# Altium schematic symbol library USB2JTAG.SchLib: 14 symbols
Pins are listed as number, name and electrical type; pins without a type are passive.

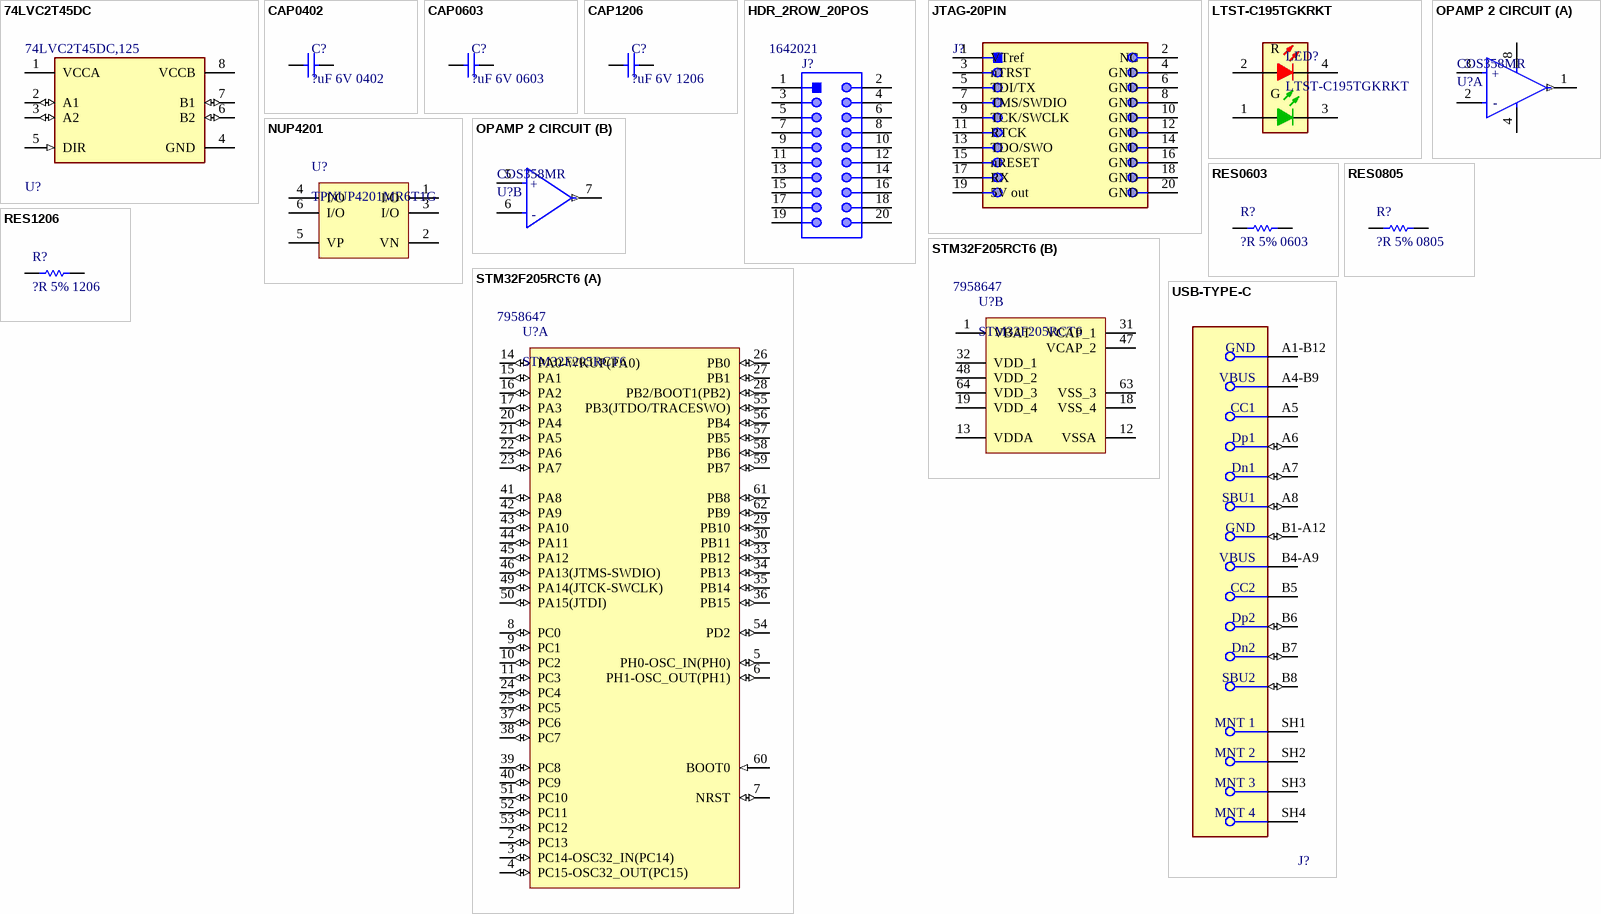
[diagram p0: symbols 74LVC2T45DC to USB-TYPE-C]

## 74LVC2T45DC
designator U?, comment 74LVC2T45DC,125
1.2V~5.5V Tri-State，Unidirectional Voltage Level Translators -40℃~+125℃ 1.2V~5.5V Bi-Directional Voltage Levels 1 2 420Mbps VSSOP-8 Translators / Level Shifters ROHS; Manufacturer: Nexperia; ComponentLink1Description: Datasheet; ComponentLink1URL: https://datasheet.lcsc.com/lcsc/2201131100_Nexperia-74LVC2T45DC-125_C730237.pdf; Manufacturer Part Number: 74LVC2T45DC,125; Case/Package: VSSOP-8; Supplier 1: LCSC; Supplier Part Number 1: C730237
footprint FP-DCU0008A-MFG
pins: 1 VCCA (power), 2 A1 (io), 3 A2 (io), 4 GND (power), 5 DIR (in), 6 B2 (io), 7 B1 (io), 8 VCCB (power)

## CAP0402
designator C?, comment ?uF 6V 0402
footprint FP-GRM155-0_05-IPC_A
footprint FP-GRM155-0_05-IPC_B
footprint FP-GRM155-0_05-IPC_C
footprint FP-GRM155-0_05-MFG
footprint FP-GRM155-0_05-IPC_B-NOSILK
pins: 1, 2

## CAP0603
designator C?, comment ?uF 6V 0603
footprint FP-GRM188-0_1-e0_2_0_55-IPC_A
footprint FP-GRM188-0_1-e0_2_0_55-IPC_B
footprint FP-GRM188-0_1-e0_2_0_55-IPC_B-NOSILK
footprint FP-GRM188-0_1-e0_2_0_55-IPC_C
footprint FP-GRM188-0_1-e0_2_0_55-MFG
footprint FP-GRM188-0_1-e0_2_0_55-IPC_C-NOSILK
pins: 1, 2

## CAP1206
designator C?, comment ?uF 6V 1206
footprint FP-C3216-160-0_2-IPC_A
footprint FP-C3216-160-0_2-IPC_B
footprint FP-C3216-160-0_2-IPC_B-NOSILK
footprint FP-C3216-160-0_2-IPC_C
footprint FP-C3216-160-0_2-IPC_C-NOSILK
footprint FP-C3216-160-0_2-MFG
pins: 1, 2

## HDR_2ROW_20POS
designator J?  Supplier Part Number 1: 1642021
Male Box Header WR-BHD, THT, Vertical, pitch 2.54 mm, 20 pins; Manufacturer: Wurth Elektronik; Part Number: 61202021621; Contact Resistance: 20mOhm; Withstanding Voltage: 500VAC; Pitch: 2.54mm; Pin Number: 20; Working Voltage: 250VAC; Current Rating: 3A; Voltage Rating: 250V; Insulation Resistance: 1GR; Connector Type: Male Pin; Insulation: Insulated; Row Spacing: 0.1inch; Orientation: Vertical; Package Reference: 61202021621; Publisher: WurthElektronik; Datasheet URL: https://katalog.we-online.de/em/datasheet/6120xx21621.pdf; Operating Temperature: -40to125degC; Packaging: Tray; Mounting Technology: THT; Gender: Male; Manufacturer URL: http://www.we-online.de; Published Date: August2018; Supplier 1: Farnell; Manufacturer Part Number: 61202021621; RoHS: Yes; Category: Headers and Wire Housings; Stock 1: 1948; Pricing 1: 1=0,93000, 10=0,84200, 100=0,66700, 500=0,65400, 1000=0,64000, 2500=0,62700 (EUR); Mount: Through Hole; Contact Plating: Gold; Contact Material: Copper Alloy,Copper; Color: Black; Housing Material: PBT; Min Operating Temperature: -40°C; Max Operating Temperature: 125°C; Number of Rows: 2; Package Quantity: 160; Contact Gender: Male; Number of Positions: 20; Termination: Through Hole; Number of Contacts: 20; Series: WR-BHD; Contact Type: Male Pin; Length: 33.06mm; Width: 33.06mm; Height: 8.85mm; REACH SVHC: Unknown; Flammability Rating: UL94 V-0; RoHS Compliant: Yes; ComponentLink1URL: https://datasheet.ciiva.com/731/6120xx21621-731346.pdf?src-supplier=Digi-Key; ComponentLink1Description: https://datasheet.ciiva.com/731/6120xx21621-731346.pdf?src-supplier=Digi-Key
footprint 61202021621-Edge-SMT (20 pins, edge SMT gold plating)
pins: 1, 2, 3, 4, 5, 6, 7, 8, 9, 10, 11, 12, 13, 14, 15, 16, 17, 18, 19, 20

## JTAG-20PIN
designator J?
Male Box Header WR-BHD, THT, Vertical, pitch 2.54 mm, 20 pins; Manufacturer: Wurth Elektronik; Part Number: 61202021621; Contact Resistance: 20mOhm; Withstanding Voltage: 500VAC; Pitch: 2.54mm; Pin Number: 20; Working Voltage: 250VAC; Current Rating: 3A; Voltage Rating: 250V; Insulation Resistance: 1GR; Connector Type: Male Pin; Insulation: Insulated; Row Spacing: 0.1inch; Orientation: Vertical; Package Reference: 61202021621; Publisher: WurthElektronik; Datasheet URL: https://katalog.we-online.de/em/datasheet/6120xx21621.pdf; Operating Temperature: -40to125degC; Packaging: Tray; Mounting Technology: THT; Gender: Male; Manufacturer URL: http://www.we-online.de; Published Date: August2018; Supplier 1: Farnell; Manufacturer Part Number: 61202021621; RoHS: Yes; Category: Headers and Wire Housings; Stock 1: 1948; Pricing 1: 1=0,93000, 10=0,84200, 100=0,66700, 500=0,65400, 1000=0,64000, 2500=0,62700 (EUR); Mount: Through Hole; Contact Plating: Gold; Contact Material: Copper Alloy,Copper; Color: Black; Housing Material: PBT; Min Operating Temperature: -40°C; Max Operating Temperature: 125°C; Number of Rows: 2; Package Quantity: 160; Contact Gender: Male; Number of Positions: 20; Termination: Through Hole; Number of Contacts: 20; Series: WR-BHD; Contact Type: Male Pin; Length: 33.06mm; Width: 33.06mm; Height: 8.85mm; REACH SVHC: Unknown; Flammability Rating: UL94 V-0; RoHS Compliant: Yes; ComponentLink1URL: https://datasheet.ciiva.com/731/6120xx21621-731346.pdf?src-supplier=Digi-Key; ComponentLink1Description: https://datasheet.ciiva.com/731/6120xx21621-731346.pdf?src-supplier=Digi-Key; Supplier Part Number 1: 1642021
footprint 61202021621-Edge-SMT (20 pins, edge SMT gold plating)
pins: 1 VTref, 2 NC, 3 nTRST, 4 GND, 5 TDI/TX, 6 GND, 7 TMS/SWDIO, 8 GND, 9 TCK/SWCLK, 10 GND, 11 RTCK, 12 GND, 13 TDO/SWO, 14 GND, 15 nRESET, 16 GND, 17 RX, 18 GND, 19 5V out, 20 GND

## LTST-C195TGKRKT
designator LED?
LED Bi-Color Green/Red 525nm/631nm Chip LED 4-Pin SMD T/R; Manufacturer: Vishay Lite-On; Color: Green,Red; Lens Color: Colorless; Viewing Angle: 130°; Lens Transparency: Clear; Luminous Intensity: 196mcd; Test Current: 20mA; Dominant Wavelength: 631nm; Forward Voltage: 2V; Lens Style: Diffused,Colorless,Rectangular; Number of LEDs: 2; Supplier 1: Avnet; Supplier Part Number 1: LTST-C195TGKRKT; Manufacturer Part Number: LTST-C195TGKRKT; RoHS: Yes; Category: LEDs; Pricing 1: 8000=0,09685, 16000=0,09432, 24000=0,08989, 40000=0,08735, 80000=0,08546 (USD); Mount: Surface Mount; Case/Package: SMD/SMT; Number of Pins: 4; Packaging: Tape and Reel; Length: 1.6mm; Width: 1.5mm; Height: 0.55mm; RoHS Compliant: Yes; Lead Free: Lead Free; ComponentLink1URL: https://datasheet.ciiva.com/29562/s-110-ltst-c195tgkfkt-29562848.pdf?src-supplier=Digi-Key; ComponentLink1Description: https://datasheet.ciiva.com/29562/s-110-ltst-c195tgkfkt-29562848.pdf?src-supplier=Digi-Key
footprint FP-LTST-C19HE1WT-MFG
pins: 1 B, 2 R, 3 G, 4 A

## NUP4201
designator U?, comment TPNUP4201MR6T1G
SOT-23-6 ESD Protection Devices ROHS; Manufacturer: TECH PUBLIC; ComponentLink1Description: Datasheet; ComponentLink1URL: https://datasheet.lcsc.com/lcsc/2108131930_TECH-PUBLIC-TPNUP4201MR6T1G_C587156.pdf; Case/Package: SOT23-6; Supplier 1: LCSC; Supplier Part Number 1: C587156; Manufacturer Part Number: TPNUP4201MR6T1G
footprint ONSC-TSOP-6-318G-02_V (SOP, 6-Leads, Body 3x1.5mm, Pitch 0.95mm)
pins: 1 I/O, 2 VN (power), 3 I/O, 4 I/O, 5 VP (power), 6 I/O

## OPAMP 2 CIRCUIT
designator U?, comment COS358MR
IC OPAMP GP 2 CIRCUIT 8SOIC; Manufacturer: COSINE; Case/Package: MSOP-8; Manufacturer Part Number: COS358MR; Supplier 1: LCSC; Supplier Part Number 1: C693058; ComponentLink1Description: Datasheet; ComponentLink1URL: https://datasheet.lcsc.com/lcsc/2006301914_COSINE-COS358MR_C693058.pdf
footprint MSOP-8 (TSOP, 8-Leads, Body 3,00x3,00mm, Pitch 0,65mm, IPC High Density)
part A pins: 1 OUT1 (out), 2 IN1- (hiz), 3 IN1+ (hiz), 4 V- (power), 8 V+ (power)
part B pins: 5 IN2+ (hiz), 6 IN2- (hiz), 7 OUT2 (out)
part A text: +; -
part B text: +; -

## RES0603
designator R?, comment ?R 5% 0603
footprint FP-ERA3A-IPC_A
footprint FP-ERA3A-IPC_B
footprint FP-ERA3A-IPC_C
footprint FP-ERA3A-IPC_C-NOSILK
footprint FP-ERA3A-MFG
footprint FP-ERA3A-IPC_B-NOSILK
pins: 1, 2

## RES0805
designator R?, comment ?R 5% 0805
footprint FP-RC0805-0_6-IPC_A
footprint FP-RC0805-0_6-IPC_B
footprint FP-RC0805-0_6-IPC_B-NOSILK
footprint FP-RC0805-0_6-IPC_C
footprint FP-RC0805-0_6-IPC_C-NOSILK
footprint FP-RC0805-0_6-MFG
pins: 1, 2

## RES1206
designator R?, comment ?R 5% 1206
footprint FP-RC1206-IPC_A
footprint FP-RC1206-IPC_B
footprint FP-RC1206-IPC_C
footprint FP-RC1206-MFG
pins: 1, 2

## STM32F205RCT6
designator U?  Supplier Part Number 1: 7958647
High-performance ARM Cortex-M3 MCU with 256 Kbytes Flash, 120 MHz CPU, ART Accelerator; Manufacturer: STMicroelectronics; RAM Size: 100KB; Max Power Dissipation: 444mW; Interface: SDIO,I2C,SPI,USB,CAN,IrDA,MMC,UART,USART,LIN,I2S; Number of I/Os: 51; Number of Timers/Counters: 14; Max Supply Voltage: 3.6V; Frequency: 120MHz; Min Supply Voltage: 1.8V; Number of Programmable I/O: 16; Data Bus Width: 32b; Oscillator Type: Internal; Watchdog Timer: Yes; Memory Size: 256KB; Peripherals: Brown-out Detect/Reset,POR,PWM,WDT,DMA,LCD,I2C; Number of PWM Channels: 2; Number of SPI Channels: 3; Number of Ethernet Channels: 1; ComponentLink2URL: http://www.st.com/st-web-ui/static/active/en/resource/technical/document/datasheet/CD00237391.pdf; ComponentLink3Description: Package Specification; ComponentLink2Description: Datasheet; ComponentLink1Description: Manufacturer URL; ComponentLink3URL: http://www.st.com/st-web-ui/static/active/en/resource/technical/document/datasheet/DM00037051.pdf; ComponentLink1URL: http://www.st.com/web/en/home.html; Supplier 1: RSComponents; Manufacturer Part Number: STM32F205RCT6; RoHS: Yes; Category: Microcontrollers; Stock 1: 3; Pricing 1: 5=12,81000, 10=11,58000, 25=11,05600, 100=9,59400, 250=9,13400 (GBP); Case/Package: LQFP; Number of Pins: 64; Min Operating Temperature: -40°C; Max Operating Temperature: 85°C; Packaging: Tray; Max Frequency: 120MHz; Memory Type: FLASH; Core Architecture: ARM; Package Quantity: 160; Number of USB Channels: 2; Number of ADC Channels: 16; Number of I2C Channels: 3; Number of UART Channels: 2; Length: 10.2mm; Width: 10.2mm; Height: 1.45mm; Radiation Hardening: No; REACH SVHC: No SVHC; Lead Free: Lead Free; ComponentLink4URL: https://datasheet.ciiva.com/8055/1776949-8055000.pdf?src-supplier=Element14; ComponentLink4Description: https://datasheet.ciiva.com/8055/1776949-8055000.pdf?src-supplier=Element14; ComponentLink5URL: https://datasheet.ciiva.com/16491/cd00237391-16491001.pdf?src-supplier=Future+Electronics; ComponentLink5Description: https://datasheet.ciiva.com/16491/cd00237391-16491001.pdf?src-supplier=Future+Electronics; ComponentLink6URL: https://datasheet.ciiva.com/48687/001075498-da-01-en-mcu-256kb-stm32f205rct6-lqfp-64-stm-48687468.pdf?src-supplier=Conrad; ComponentLink6Description: https://datasheet.ciiva.com/48687/001075498-da-01-en-mcu-256kb-stm32f205rct6-lqfp-64-stm-48687468.pdf?src-supplier=Conrad
footprint STM-LQFP64_V (Thin QFP, 64-Leads, Body 10x10mm, Pitch 0.5mm, ST Recommended)
part A pins: 2 PC13 (io) "PC13/EVENTOUT/RTC_AF1", 3 PC14-OSC32_IN(PC14) (io) "PC14-OSC32_IN/PC14/EVENTOUT/OSC32_IN", 4 PC15-OSC32_OUT(PC15) (io) "PC15-OSC32_OUT/PC15/EVENTOUT/OSC32_OUT", 5 PH0-OSC_IN(PH0) (io) "PH0-OSC_IN(PH0)/PH0/EVENTOUT/OSC_IN", 6 PH1-OSC_OUT(PH1) (io) "PH1-OSC_OUT(PH1)/PH1/EVENTOUT/OSC_OUT", 7 NRST (io), 8 PC0 (io) "PC0/OTG_HS_ULPI_STP/EVENTOUT/ADC123_IN10", 9 PC1 (io) "PC1/ETH_MDC/EVENTOUT/ADC123_IN11", 10 PC2 (io) "PC2/SPI2_MISO/OTG_HS_ULPI_DIR/ETH_MII_TXD2/EVENTOUT/ADC123_IN12", 11 PC3 (io) "PC3/SPI2_MOSI/I2S2_SD/OTG_HS_ULPI_NXT/ETH_MII_TX_CLK/EVENTOUT/ADC123_IN13", 14 PA0-WKUP(PA0) (io) "PA0-WKUP(PA0)/USART2_CTS/UART4_TX/ETH_MII_CRS/TIM2_CH1_ETR/TIM5_CH1/TIM8_ETR/EVENTOUT/ADC123_IN0/WKUP", 15 PA1 (io) "PA1/USART2_RTS/UART4_RX/ETH_RMII_REF_CLK/ETH_MII_RX_CLK/TIM5_CH2/TIM2_CH2/EVENTOUT/ADC123_IN1", 16 PA2 (io) "PA2/USART2_TX/TIM5_CH3/TIM9_CH1/TIM2_CH3/ETH_MDIO/EVENTOUT/ADC123_IN2", 17 PA3 (io) "PA3/USART2_RX/TIM5_CH4/TIM9_CH2/TIM2_CH4/OTG_HS_ULPI_D0/ETH_MII_COL/EVENTOUT/ADC123_IN3", 20 PA4 (io) "PA4/SPI1_NSS/SPI3_NSS/USART2_CK/DCMI_HSYNC/OTG_HS_SOF/I2S3_WS/EVENTOUT/ADC12_IN4/DAC_OUT1", 21 PA5 (io) "PA5/SPI1_SCK/OTG_HS_ULPI_CK/TIM2_CH1_ETR/TIM8_CH1N/EVENTOUT/ADC12_IN5/DAC_OUT2", 22 PA6 (io) "PA6/SPI1_MISO/TIM8_BKIN/TIM13_CH1/DCMI_PIXCLK/TIM3_CH1/TIM1_BKIN/EVENTOUT/ADC12_IN6", 23 PA7 (io) "PA7/SPI1_MOSI/TIM8_CH1N/TIM14_CH1/TIM3_CH2/ETH_MII_RX_DV/TIM1_CH1N/RMII_CRS_DV/EVENTOUT/ADC12_IN7", 24 PC4 (io) "PC4/ETH_RMII_RX_D0/ETH_MII_RX_D0/EVENTOUT/ADC12_IN14", 25 PC5 (io) "PC5/ETH_RMII_RX_D1/ETH_MII_RX_D1/EVENTOUT/ADC12_IN15", 26 PB0 (io) "PB0/TIM3_CH3/TIM8_CH2N/OTG_HS_ULPI_D1/ETH_MII_RXD2/TIM1_CH2N/EVENTOUT/ADC12_IN8", 27 PB1 (io) "PB1/TIM3_CH4/TIM8_CH3N/OTG_HS_ULPI_D2/ETH_MII_RXD3/TIM1_CH3N/EVENTOUT/ADC12_IN9", 28 PB2/BOOT1(PB2) (io) "PB2/PB2-BOOT1/EVENTOUT", 29 PB10 (io) "PB10/SPI2_SCK/I2S2_SCK/I2C2_SCL/USART3_TX/OTG_HS_ULPI_D3/ETH_MII_RX_ER/TIM2_CH3/EVENTOUT", 30 PB11 (io) "PB11/I2C2_SDA/USART3_RX/OTG_HS_ULPI_D4/ETH_RMII_TX_EN/ETH_MII_TX_EN/TIM2_CH4/EVENTOUT", 33 PB12 (io) "PB12/SPI2_NSS/I2S2_WS/I2C2_SMBA/USART3_CK/TIM1_BKIN/CAN2_RX/OTG_HS_ULPI_D5/ETH_RMII_TXD0/ETH_MII_TXD0/OTG_HS_ID/EVENTOUT", 34 PB13 (io) "PB13/SPI2_SCK/I2S2_SCK/USART3_CTS/TIM1_CH1N/CAN2_TX/OTG_HS_ULPI_D6/ETH_RMII_TXD1/ETH_MII_TXD1/EVENTOUT/OTG_HS_VBUS", 35 PB14 (io) "PB14/SPI2_MISO/TIM1_CH2N/TIM12_CH1/OTG_HS_DM/USART3_RTS/TIM8_CH2N/EVENTOUT", 36 PB15 (io) "PB15/SPI2_MOSI/I2S2_SD/TIM1_CH3N/TIM8_CH3N/TIM12_CH2/OTG_HS_DP/RTC_50Hz/EVENTOUT", 37 PC6 (io) "PC6/I2S2_MCK/TIM8_CH1/SDIO_D6/USART6_TX/DCMI_D0/TIM3_CH1/EVENTOUT", 38 PC7 (io) "PC7/I2S3_MCK/TIM8_CH2/SDIO_D7/USART6_RX/DCMI_D1/TIM3_CH2/EVENTOUT", 39 PC8 (io) "PC8/TIM8_CH3/SDIO_D0/TIM3_CH3/USART6_CK/DCMI_D2/EVENTOUT", 40 PC9 (io) "PC9/I2S2_CKIN/I2S3_CKIN/MCO2/TIM8_CH4/SDIO_D1/I2C3_SDA/DCMI_D3/TIM3_CH4/EVENTOUT", 41 PA8 (io) "PA8/MCO1/USART1_CK/TIM1_CH1/I2C3_SCL/OTG_FS_SOF/EVENTOUT", 42 PA9 (io) "PA9/USART1_TX/TIM1_CH2/I2C3_SMBA/DCMI_D0/EVENTOUT/OTG_FS_VBUS", 43 PA10 (io) "PA10/USART1_RX/TIM1_CH3/OTG_FS_ID/DCMI_D1/EVENTOUT", 44 PA11 (io) "PA11/USART1_CTS/CAN1_RX/TIM1_CH4/OTG_FS_DM/EVENTOUT", 45 PA12 (io) "PA12/USART1_RTS/CAN1_TX/TIM1_ETR/OTG_FS_DP/EVENTOUT", 46 PA13(JTMS-SWDIO) (io) "PA13/JTMS-SWDIO/EVENTOUT", 49 PA14(JTCK-SWCLK) (io) "PA14/JTCK-SWCLK/EVENTOUT", 50 PA15(JTDI) (io) "PA15/JTDI/SPI3_NSS/I2S3_WS/TIM2_CH1_ETR/SPI1_NSS/EVENTOUT", 51 PC10 (io) "PC10/SPI3_SCK/I2S3_SCK/UART4_TX/SDIO_D2/DCMI_D8/USART3_TX/EVENTOUT", 52 PC11 (io) "PC11/UART4_RX/SPI3_MISO/SDIO_D3/DCMI_D4/USART3_RX/EVENTOUT", 53 PC12 (io) "PC12/UART5_TX/SDIO_CK/DCMI_D9/SPI3_MOSI/I2S3_SD/USART3_CK/EVENTOUT", 54 PD2 (io) "PD2/TIM3_ETR/UART5_RX/SDIO_CMD/DCMI_D11/EVENTOUT", 55 PB3(JTDO/TRACESWO) (io) "PB3/JTDO/TRACESWO/SPI3_SCK/I2S3_SCK/TIM2_CH2/SPI1_SCK/EVENTOUT", 56 PB4 (io) "PB4/NJTRST/SPI3_MISO/TIM3_CH1/SPI1_MISO/EVENTOUT", 57 PB5 (io) "PB5/I2C1_SMBA/CAN2_RX/OTG_HS_ULPI_D7/ETH_PPS_OUT/TIM3_CH2/SPI1_MOSI/SPI3_MOSI/DCMI_D10/I2S3_SD/EVENTOUT", 58 PB6 (io) "PB6/I2C1_SCL/TIM4_CH1/CAN2_TX/DCMI_D5/USART1_TX/EVENTOUT", 59 PB7 (io) "PB7/I2C1_SDA/FSMC_NL/DCMI_VSYNC/USART1_RX/TIM4_CH2/EVENTOUT", 60 BOOT0 (in) "BOOT0/VPP", 61 PB8 (io) "PB8/TIM4_CH3/SDIO_D4/TIM10_CH1/DCMI_D6/ETH_MII_TXD3/I2C1_SCL/CAN1_RX/EVENTOUT", 62 PB9 (io) "PB9/SPI2_NSS/I2S2_WS/TIM4_CH4/TIM11_CH1/SDIO_D5/DCMI_D7/I2C1_SDA/CAN1_TX/EVENTOUT"
part B pins: 1 VBAT (power), 12 VSSA (power), 13 VDDA (power), 18 VSS_4 (power), 19 VDD_4 (power), 31 VCAP_1 (power), 32 VDD_1 (power), 47 VCAP_2 (power), 48 VDD_2 (power), 63 VSS_3 (power), 64 VDD_3 (power)

## USB-TYPE-C
designator J?
CONN USB 2.0 TYPE-C R/A SMT; Manufacturer: Shenzhen Kinghelm Elec; Manufacturer Part Number: KH-TYPE-C-16P; Number Of Contacts: 16; ComponentLink2URL: https://datasheet.lcsc.com/lcsc/2009111434_Shenzhen-Kinghelm-Elec-KH-TYPE-C-16P_C709357.pdf; ComponentLink2Description: Datasheet; Supplier 1: LCSC; Supplier Part Number 1: C709357
footprint KH-TYPE-C-16P (USB type-c connector)
footprint KH-TYPE-C-16P-2 (USB type-c connector)
pins: A1-B12 GND, A4-B9 VBUS (power), A5 CC1 (power), A6 Dp1 (io), A7 Dn1 (io), A8 SBU1 (io), B1-A12 GND (io), B4-A9 VBUS (power), B5 CC2 (power), B6 Dp2 (io), B7 Dn2 (io), B8 SBU2 (io), SH1, SH2, SH3, SH4
text: MNT 1; MNT 2; MNT 3; MNT 4